# Altium footprint library 1803374.PcbLib: 1 footprints
Each footprint in its own frame and in the unit in brackets; x right, y up, seen from the top. Pads: shape width x height; smd on the part's side, far side on the other; paste and mask are expansions set on the pad; w line width, h text height; cw(c..) or ccw(c..) is an arc to the next point about the centre after c.
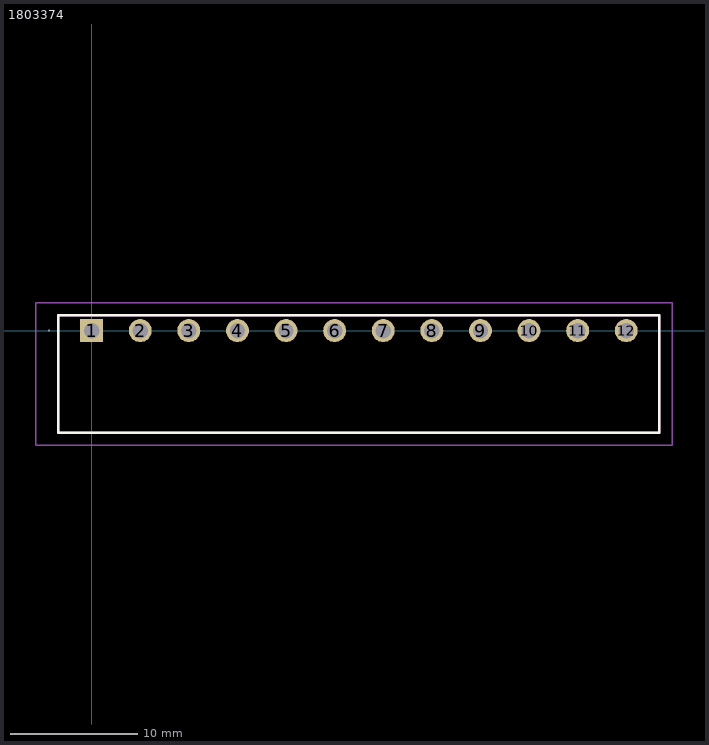
[diagram p0: the footprint, top view; thin cyan lines are the x and y axes]

## 1803374 [mm]
pads (12):
  rect 1.8x1.8 hole 1.2: 1(0,0)
  round 1.8 hole 1.2: 2(3.81,0) 3(7.62,0) 4(11.43,0) 5(15.24,0) 6(19.05,0) 7(22.86,0) 8(26.67,0) 9(30.48,0) 10(34.29,0) 11(38.1,0) 12(41.91,0)
Top Overlay:
  lines w0.05: -3.375,0 -3.375,0 ; -3.375,0 ccw(c-3.35,0) -3.325,0 ; -3.375,0 cw(c-3.35,0) -3.325,0 ; -3.325,0 -3.325,0
  lines w0.2: -2.6,-8 44.51,-8 44.51,1.2 -2.6,1.2 -2.6,-8
Mechanical 15:
  lines w0.2: -2.6,-8 44.51,-8 44.51,1.2 -2.6,1.2 -2.6,-8
Mechanical 20:
  lines w0.1: -4.375,-9 45.51,-9 45.51,2.2 -4.375,2.2 -4.375,-9